# EAGLE library part CON_01X09 (library PP_Connectors)
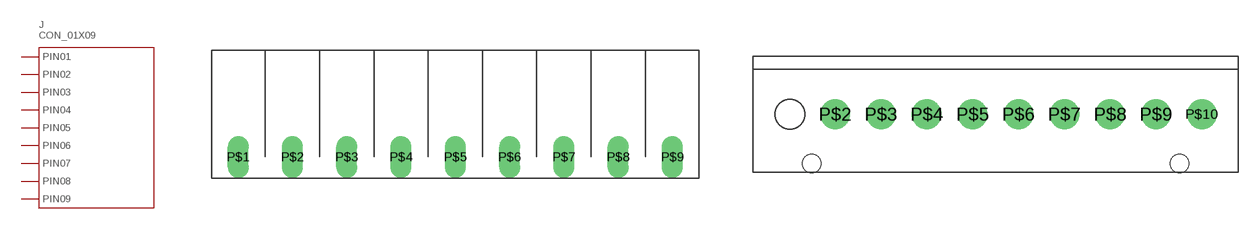
[diagram p17: symbol with the pads of B6602222; footprints B6602222, 26-64-4100(KEYPIN1)]

Designator prefix J

## CON_01X09_B6602222 (POPULATE: 1)  [B6602222]
P$1  PIN1
P$2  PIN2
P$3  PIN3
P$4  PIN4
P$5  PIN5
P$6  PIN6
P$7  PIN7
P$8  PIN8
P$9  PIN9

## CON_01X09_26-64-4100_(KEYPIN1) (POPULATE: 1)  [26-64-4100(KEYPIN1)]
P$2  PIN1
P$3  PIN2
P$4  PIN3
P$5  PIN4
P$6  PIN5
P$7  PIN6
P$8  PIN7
P$9  PIN8
P$10  PIN9

## CON_01X09_26-64-4100_(KEYPIN10) (POPULATE: 1)  [26-64-4100(KEYPIN10)]
Pads as for B6602222

## CON_01X09_26-64-4100_(KEYPIN2) (POPULATE: 1)  [26-64-4100(KEYPIN2)]
P$1  PIN1
P$3  PIN2
P$4  PIN3
P$5  PIN4
P$6  PIN5
P$7  PIN6
P$8  PIN7
P$9  PIN8
P$10  PIN9

## CON_01X09_26-64-4100_(KEYPIN3) (POPULATE: 1)  [26-64-4100(KEYPIN3)]
P$1  PIN1
P$2  PIN2
P$4  PIN3
P$5  PIN4
P$6  PIN5
P$7  PIN6
P$8  PIN7
P$9  PIN8
P$10  PIN9

## CON_01X09_26-64-4100_(KEYPIN4) (POPULATE: 1)  [26-64-4100(KEYPIN4)]
P$1  PIN1
P$2  PIN2
P$3  PIN3
P$5  PIN4
P$6  PIN5
P$7  PIN6
P$8  PIN7
P$9  PIN8
P$10  PIN9

## CON_01X09_26-64-4100_(KEYPIN5) (POPULATE: 1)  [26-64-4100(KEYPIN5)]
P$1  PIN1
P$2  PIN2
P$3  PIN3
P$4  PIN4
P$6  PIN5
P$7  PIN6
P$8  PIN7
P$9  PIN8
P$10  PIN9

## CON_01X09_26-64-4100_(KEYPIN6) (POPULATE: 1)  [26-64-4100(KEYPIN6)]
P$1  PIN1
P$2  PIN2
P$3  PIN3
P$4  PIN4
P$5  PIN5
P$7  PIN6
P$8  PIN7
P$9  PIN8
P$10  PIN9

## CON_01X09_26-64-4100_(KEYPIN7) (POPULATE: 1)  [26-64-4100(KEYPIN7)]
P$1  PIN1
P$2  PIN2
P$3  PIN3
P$4  PIN4
P$5  PIN5
P$6  PIN6
P$8  PIN7
P$9  PIN8
P$10  PIN9

## CON_01X09_26-64-4100_(KEYPIN8) (POPULATE: 1)  [26-64-4100(KEYPIN8)]
P$1  PIN1
P$2  PIN2
P$3  PIN3
P$4  PIN4
P$5  PIN5
P$6  PIN6
P$7  PIN7
P$9  PIN8
P$10  PIN9

## CON_01X09_26-64-4100_(KEYPIN9) (POPULATE: 1)  [26-64-4100(KEYPIN9)]
P$1  PIN1
P$2  PIN2
P$3  PIN3
P$4  PIN4
P$5  PIN5
P$6  PIN6
P$7  PIN7
P$8  PIN8
P$10  PIN9

## CON_01X09_26-64-4090 (POPULATE: 1)  [26-64-4090]
Pads as for B6602222

## CON_01X09_2.54MM_PIN_HEADER (POPULATE: 1)  [2.54MM_01X09_PIN_HEADER]
1  PIN1
2  PIN2
3  PIN3
4  PIN4
5  PIN5
6  PIN6
7  PIN7
8  PIN8
9  PIN9

## CON_01X09_22-23-2101(KEYPIN1) (POPULATE: 1)  [22-23-2101(KEYPIN1)]
Pads as for 2.54MM_01X09_PIN_HEADER

## CON_01X09_22-23-2101(KEYPIN10) (POPULATE: 1)  [22-23-2101(KEYPIN10)]
Pads as for 2.54MM_01X09_PIN_HEADER

## CON_01X09_22-23-2101(KEYPIN2) (POPULATE: 1)  [22-23-2101(KEYPIN2)]
Pads as for 2.54MM_01X09_PIN_HEADER

## CON_01X09_22-23-2101(KEYPIN3) (POPULATE: 1)  [22-23-2101(KEYPIN3)]
Pads as for 2.54MM_01X09_PIN_HEADER

## CON_01X09_22-23-2101(KEYPIN4) (POPULATE: 1)  [22-23-2101(KEYPIN4)]
Pads as for 2.54MM_01X09_PIN_HEADER

## CON_01X09_22-23-2101(KEYPIN5) (POPULATE: 1)  [22-23-2101(KEYPIN5)]
Pads as for 2.54MM_01X09_PIN_HEADER

## CON_01X09_22-23-2101(KEYPIN6) (POPULATE: 1)  [22-23-2101(KEYPIN6)]
Pads as for 2.54MM_01X09_PIN_HEADER

## CON_01X09_22-23-2101(KEYPIN7) (POPULATE: 1)  [22-23-2101(KEYPIN7)]
Pads as for 2.54MM_01X09_PIN_HEADER

## CON_01X09_22-23-2101(KEYPIN8) (POPULATE: 1)  [22-23-2101(KEYPIN8)]
Pads as for 2.54MM_01X09_PIN_HEADER

## CON_01X09_22-23-2101(KEYPIN9) (POPULATE: 1)  [22-23-2101(KEYPIN9)]
Pads as for 2.54MM_01X09_PIN_HEADER

## Footprint B6602222 (pad centres in mm)
drill 1.3 long: P$1 -20.32,0; P$2 -15.24,0; P$3 -10.16,0; P$4 -5.08,0; P$5 0,0; P$6 5.08,0; P$7 10.16,0; P$8 15.24,0; P$9 20.32,0

## Footprint 26-64-4100(KEYPIN1) (pad centres in mm)
drill 1.7: P$2 -13.86,0; P$3 -9.9,0; P$4 -5.94,0; P$5 -1.98,0; P$6 1.98,0; P$7 5.94,0; P$8 9.9,0; P$9 13.86,0; P$10 17.82,0
hole 1.6 at -15.875,-4.24
hole 1.6 at 15.875,-4.24

## Footprint 26-64-4100(KEYPIN10) (pad centres in mm)
drill 1.7: P$1 -17.82,0; P$2 -13.86,0; P$3 -9.9,0; P$4 -5.94,0; P$5 -1.98,0; P$6 1.98,0; P$7 5.94,0; P$8 9.9,0; P$9 13.86,0
hole 1.6 at -15.875,-4.24
hole 1.6 at 15.875,-4.24

## Footprint 26-64-4100(KEYPIN2) (pad centres in mm)
drill 1.7: P$1 -17.82,0; P$3 -9.9,0; P$4 -5.94,0; P$5 -1.98,0; P$6 1.98,0; P$7 5.94,0; P$8 9.9,0; P$9 13.86,0; P$10 17.82,0
hole 1.6 at -15.875,-4.24
hole 1.6 at 15.875,-4.24

## Footprint 26-64-4100(KEYPIN3) (pad centres in mm)
drill 1.7: P$1 -17.82,0; P$2 -13.86,0; P$4 -5.94,0; P$5 -1.98,0; P$6 1.98,0; P$7 5.94,0; P$8 9.9,0; P$9 13.86,0; P$10 17.82,0
hole 1.6 at -15.875,-4.24
hole 1.6 at 15.875,-4.24

## Footprint 26-64-4100(KEYPIN4) (pad centres in mm)
drill 1.7: P$1 -17.82,0; P$2 -13.86,0; P$3 -9.9,0; P$5 -1.98,0; P$6 1.98,0; P$7 5.94,0; P$8 9.9,0; P$9 13.86,0; P$10 17.82,0
hole 1.6 at -15.875,-4.24
hole 1.6 at 15.875,-4.24

## Footprint 26-64-4100(KEYPIN5) (pad centres in mm)
drill 1.7: P$1 -17.82,0; P$2 -13.86,0; P$3 -9.9,0; P$4 -5.94,0; P$6 1.98,0; P$7 5.94,0; P$8 9.9,0; P$9 13.86,0; P$10 17.82,0
hole 1.6 at -15.875,-4.24
hole 1.6 at 15.875,-4.24

## Footprint 26-64-4100(KEYPIN6) (pad centres in mm)
drill 1.7: P$1 -17.82,0; P$2 -13.86,0; P$3 -9.9,0; P$4 -5.94,0; P$5 -1.98,0; P$7 5.94,0; P$8 9.9,0; P$9 13.86,0; P$10 17.82,0
hole 1.6 at -15.875,-4.24
hole 1.6 at 15.875,-4.24

## Footprint 26-64-4100(KEYPIN7) (pad centres in mm)
drill 1.7: P$1 -17.82,0; P$2 -13.86,0; P$3 -9.9,0; P$4 -5.94,0; P$5 -1.98,0; P$6 1.98,0; P$8 9.9,0; P$9 13.86,0; P$10 17.82,0
hole 1.6 at -15.875,-4.24
hole 1.6 at 15.875,-4.24

## Footprint 26-64-4100(KEYPIN8) (pad centres in mm)
drill 1.7: P$1 -17.82,0; P$2 -13.86,0; P$3 -9.9,0; P$4 -5.94,0; P$5 -1.98,0; P$6 1.98,0; P$7 5.94,0; P$9 13.86,0; P$10 17.82,0
hole 1.6 at -15.875,-4.24
hole 1.6 at 15.875,-4.24

## Footprint 26-64-4100(KEYPIN9) (pad centres in mm)
drill 1.7: P$1 -17.82,0; P$2 -13.86,0; P$3 -9.9,0; P$4 -5.94,0; P$5 -1.98,0; P$6 1.98,0; P$7 5.94,0; P$8 9.9,0; P$10 17.82,0
hole 1.6 at -15.875,-4.24
hole 1.6 at 15.875,-4.24

## Footprint 26-64-4090 (pad centres in mm)
drill 1.7: P$1 -15.88,0; P$2 -11.92,0; P$3 -7.96,0; P$4 -4,0; P$5 -0.04,0; P$6 3.92,0; P$7 7.88,0; P$8 11.84,0; P$9 15.8,0
hole 1.6 at -13.935,-4.24
hole 1.6 at 13.855,-4.24

## Footprint 2.54MM_01X09_PIN_HEADER (pad centres in mm)
drill 0.8: 1 -10.16,0; 2 -7.62,0; 3 -5.08,0; 4 -2.54,0; 5 0,0; 6 2.54,0; 7 5.08,0; 8 7.62,0; 9 10.16,0

## Footprint 22-23-2101(KEYPIN1) (pad centres in mm)
drill 1: 1 -8.89,0; 2 -6.35,0; 3 -3.81,0; 4 -1.27,0; 5 1.27,0; 6 3.81,0; 7 6.35,0; 8 8.89,0; 9 11.43,0

## Footprint 22-23-2101(KEYPIN10) (pad centres in mm)
drill 1: 1 -11.43,0; 2 -8.89,0; 3 -6.35,0; 4 -3.81,0; 5 -1.27,0; 6 1.27,0; 7 3.81,0; 8 6.35,0; 9 8.89,0

## Footprint 22-23-2101(KEYPIN2) (pad centres in mm)
drill 1: 1 -11.43,0; 2 -6.35,0; 3 -3.81,0; 4 -1.27,0; 5 1.27,0; 6 3.81,0; 7 6.35,0; 8 8.89,0; 9 11.43,0

## Footprint 22-23-2101(KEYPIN3) (pad centres in mm)
drill 1: 1 -11.43,0; 2 -8.89,0; 3 -3.81,0; 4 -1.27,0; 5 1.27,0; 6 3.81,0; 7 6.35,0; 8 8.89,0; 9 11.43,0

## Footprint 22-23-2101(KEYPIN4) (pad centres in mm)
drill 1: 1 -11.43,0; 2 -8.89,0; 3 -6.35,0; 4 -1.27,0; 5 1.27,0; 6 3.81,0; 7 6.35,0; 8 8.89,0; 9 11.43,0

## Footprint 22-23-2101(KEYPIN5) (pad centres in mm)
drill 1: 1 -11.43,0; 2 -8.89,0; 3 -6.35,0; 4 -3.81,0; 5 1.27,0; 6 3.81,0; 7 6.35,0; 8 8.89,0; 9 11.43,0

## Footprint 22-23-2101(KEYPIN6) (pad centres in mm)
drill 1: 1 -11.43,0; 2 -8.89,0; 3 -6.35,0; 4 -3.81,0; 5 -1.27,0; 6 3.81,0; 7 6.35,0; 8 8.89,0; 9 11.43,0

## Footprint 22-23-2101(KEYPIN7) (pad centres in mm)
drill 1: 1 -11.43,0; 2 -8.89,0; 3 -6.35,0; 4 -3.81,0; 5 -1.27,0; 6 1.27,0; 7 6.35,0; 8 8.89,0; 9 11.43,0

## Footprint 22-23-2101(KEYPIN8) (pad centres in mm)
drill 1: 1 -11.43,0; 2 -8.89,0; 3 -6.35,0; 4 -3.81,0; 5 -1.27,0; 6 1.27,0; 7 3.81,0; 8 8.89,0; 9 11.43,0

## Footprint 22-23-2101(KEYPIN9) (pad centres in mm)
drill 1: 1 -11.43,0; 2 -8.89,0; 3 -6.35,0; 4 -3.81,0; 5 -1.27,0; 6 1.27,0; 7 3.81,0; 8 6.35,0; 9 11.43,0